# EAGLE library part FT230X (library Hauptstation)
FTDI Chip USART <-> USB 2.0
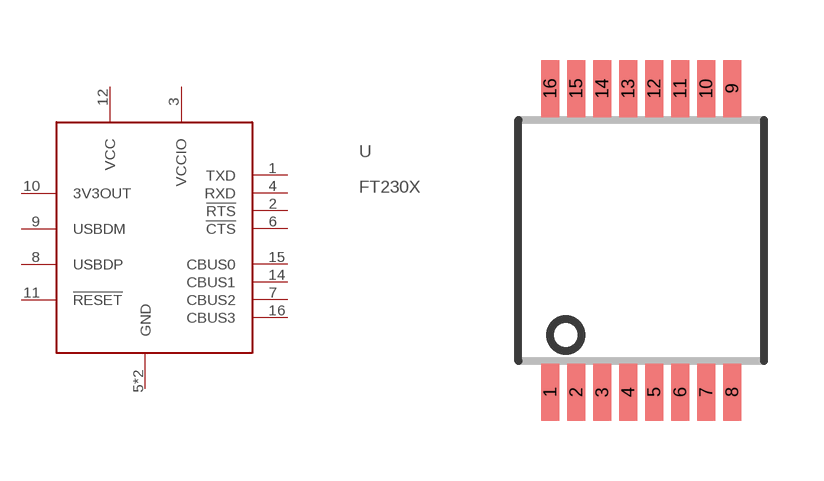
[diagram p2: symbol with the pads of SSOP16; footprint SSOP16]

Designator prefix U

## FT230X  [SSOP16]
1  TXD
2  !RTS!
3  VCCIO
4  RXD
5  GND
6  !CTS!
7  CBUS2
8  USBDP
9  USBDM
10  3V3OUT
11  !RESET!
12  VCC
13  GND
14  CBUS1
15  CBUS0
16  CBUS3

## Footprint SSOP16 (pad centres in mm)
Small Shrink Outline Package SSOP 16 (5.3mm x 6.2mm) Source: www.austriamicrosystems.com .. AS5040DataSheetRev12.pdf
smd 0.46 x 1.43: 1 -2.275,-3.795; 2 -1.625,-3.795; 3 -0.975,-3.795; 4 -0.325,-3.795; 5 0.325,-3.795; 6 0.975,-3.795; 7 1.625,-3.795; 8 2.275,-3.795; 9 2.275,3.795; 10 1.625,3.795; 11 0.975,3.795; 12 0.325,3.795; 13 -0.325,3.795; 14 -0.975,3.795; 15 -1.625,3.795; 16 -2.275,3.795